# Altium schematic symbol library gates library.SchLib: 1 symbol
Pins are listed as number, name and electrical type; pins without a type are passive.

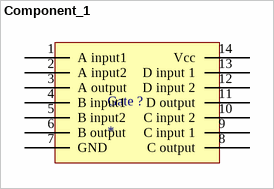
[diagram p0: symbol Component_1]

## Component_1
designator Gate ?
footprint Gate?
pins: 1 A input1, 2 A input2, 3 A output, 4 B input1, 5 B input2, 6 B output, 7 GND, 8 C output, 9 C input 1, 10 C input 2, 11 D output, 12 D input 2, 13 D input 1, 14 Vcc